# Altium schematic symbol library 4A_Fuse.SchLib: 1 symbol
Pins are listed as number, name and electrical type; pins without a type are passive.

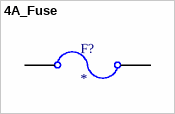
[diagram p0: symbol 4A_Fuse]

## 4A_Fuse
designator F?
footprint 4A_Fuse
pins: 0, 1